# EAGLE library part RP2350A (library FaBo-MPU)
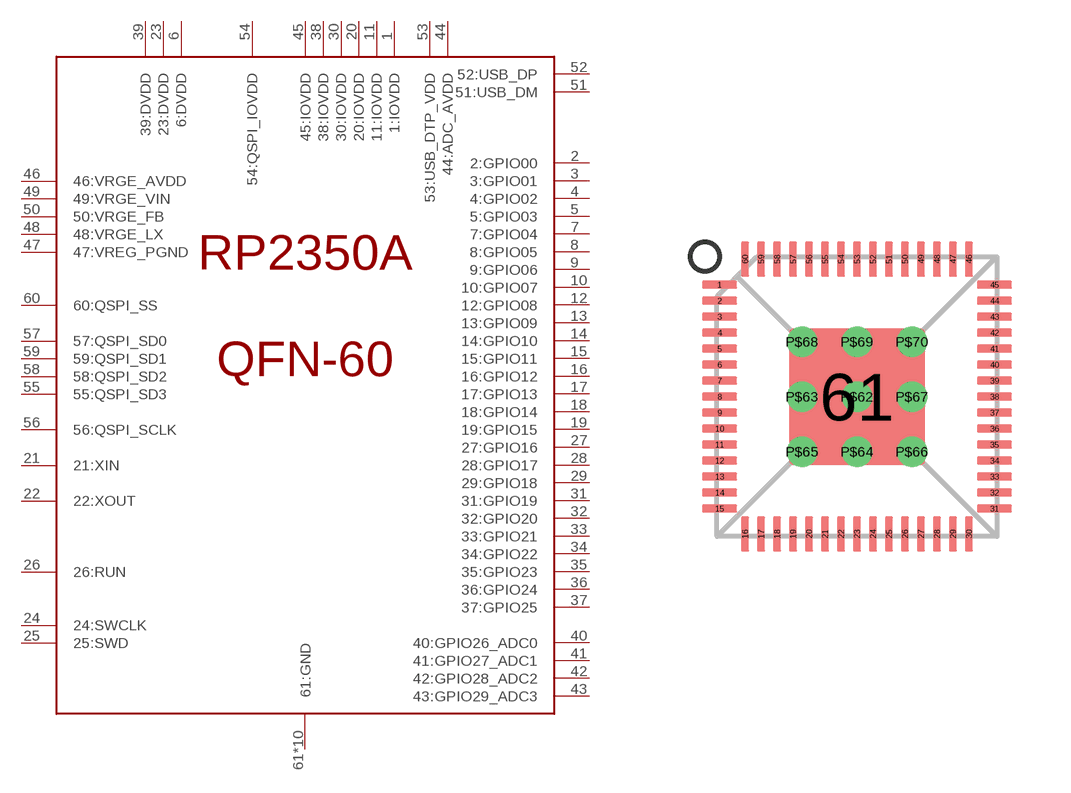
[diagram p17: symbol with the pads of QFN60; footprint QFN60]

Designator prefix -

## RP2350A  [QFN60]
1  1:IOVDD  pwr
2  2:GPIO00
3  3:GPIO01
4  4:GPIO02
5  5:GPIO03
6  6:DVDD  pwr
7  7:GPIO04
8  8:GPIO05
9  9:GPIO06
10  10:GPIO07
11  11:IOVDD  pwr
12  12:GPIO08
13  13:GPIO09
14  14:GPIO10
15  15:GPIO11
16  16:GPIO12
17  17:GPIO13
18  18:GPIO14
19  19:GPIO15
20  20:IOVDD  pwr
21  21:XIN  in
22  22:XOUT  out
23  23:DVDD  pwr
24  24:SWCLK
25  25:SWD
26  26:RUN  in
27  27:GPIO16
28  28:GPIO17
29  29:GPIO18
30  30:IOVDD  pwr
31  31:GPIO19
32  32:GPIO20
33  33:GPIO21
34  34:GPIO22
35  35:GPIO23
36  36:GPIO24
37  37:GPIO25
38  38:IOVDD  pwr
39  39:DVDD  pwr
40  40:GPIO26_ADC0
41  41:GPIO27_ADC1
42  42:GPIO28_ADC2
43  43:GPIO29_ADC3
44  44:ADC_AVDD  pwr
45  45:IOVDD  pwr
46  46:VRGE_AVDD  pwr
47  47:VREG_PGND  pwr
48  48:VRGE_LX  out
49  49:VRGE_VIN  in
50  50:VRGE_FB  in
51  51:USB_DM
52  52:USB_DP
53  53:USB_DTP_VDD  pwr
54  54:QSPI_IOVDD  pwr
55  55:QSPI_SD3
56  56:QSPI_SCLK  out
57  57:QSPI_SD0
58  58:QSPI_SD2
59  59:QSPI_SD1
60  60:QSPI_SS  out
61  61:GND  pwr
P$62  61:GND  pwr
P$63  61:GND  pwr
P$64  61:GND  pwr
P$65  61:GND  pwr
P$66  61:GND  pwr
P$67  61:GND  pwr
P$68  61:GND  pwr
P$69  61:GND  pwr
P$70  61:GND  pwr

## Footprint QFN60 (pad centres in mm)
smd 0.875 x 0.2: 1 -3.438,2.8; 2 -3.438,2.4; 3 -3.438,2; 4 -3.438,1.6; 5 -3.438,1.2; 6 -3.438,0.8; 7 -3.438,0.4; 8 -3.438,0; 9 -3.438,-0.4; 10 -3.438,-0.8; 11 -3.438,-1.2; 12 -3.438,-1.6; 13 -3.438,-2; 14 -3.438,-2.4; 15 -3.438,-2.8; 31 3.438,-2.8; 32 3.438,-2.4; 33 3.438,-2; 34 3.438,-1.6; 35 3.438,-1.2; 36 3.438,-0.8; 37 3.438,-0.4; 38 3.438,0; 39 3.438,0.4; 40 3.438,0.8; 41 3.438,1.2; 42 3.438,1.6; 43 3.438,2; 44 3.438,2.4; 45 3.438,2.8
smd 0.2 x 0.875: 16 -2.8,-3.438; 17 -2.4,-3.438; 18 -2,-3.438; 19 -1.6,-3.438; 20 -1.2,-3.438; 21 -0.8,-3.438; 22 -0.4,-3.438; 23 0,-3.438; 24 0.4,-3.438; 25 0.8,-3.438; 26 1.2,-3.438; 27 1.6,-3.438; 28 2,-3.438; 29 2.4,-3.438; 30 2.8,-3.438; 46 2.8,3.438; 47 2.4,3.438; 48 2,3.438; 49 1.6,3.438; 50 1.2,3.438; 51 0.8,3.438; 52 0.4,3.438; 53 0,3.438; 54 -0.4,3.438; 55 -0.8,3.438; 56 -1.2,3.438; 57 -1.6,3.438; 58 -2,3.438; 59 -2.4,3.438; 60 -2.8,3.438
smd 3.4 x 3.4: 61 0,0
drill 0.25 pad 0.61: P$62 0,0; P$63 -1.375,0; P$64 0,-1.375; P$65 -1.375,-1.375; P$66 1.375,-1.375; P$67 1.375,0; P$68 -1.375,1.375; P$69 0,1.375; P$70 1.375,1.375